# EAGLE library part 47388-2001 (library Jack-connectors)
Molex 1.9 mm height 6 pin SIM card socket
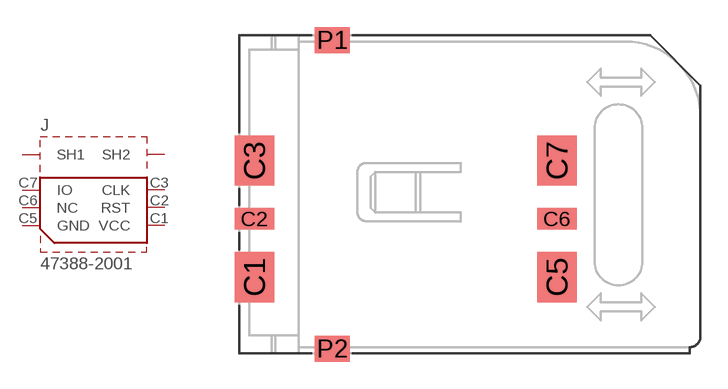
[diagram p25: symbol with the pads of SD-47388-2001; footprint SD-47388-2001]

Designator prefix J

## 47388-2001 (DESCRIPTION: Molex 1.9 mm height 6 pin SIM card socket; PACK: 47388-2001)  [SD-47388-2001]
C1  VCC  pwr
C2  RST  in
C3  CLK  in
C5  GND  pwr
C6  NC  nc
C7  IO
P1  SH1  pas
P2  SH2  pas

## Footprint SD-47388-2001 (pad centres in mm)
smd 2.2 x 2.8: C1 -11.975,-4.6; C3 -11.975,1.88; C5 4.825,-4.6; C7 4.825,1.88
smd 2.2 x 1.2: C2 -11.975,-1.36; C6 4.825,-1.36
smd 1.95 x 1.45: P1 -7.645,8.58; P2 -7.645,-8.58